# Altium footprint library IQD-Frequency-Products.PCBLIB: 26 footprints (part 2 of 2)
Each footprint in its own frame and in the unit in brackets; x right, y up, seen from the top. Pads: shape width x height; smd on the part's side, far side on the other; paste and mask are expansions set on the pad; w line width, h text height; cw(c..) or ccw(c..) is an arc to the next point about the centre after c.
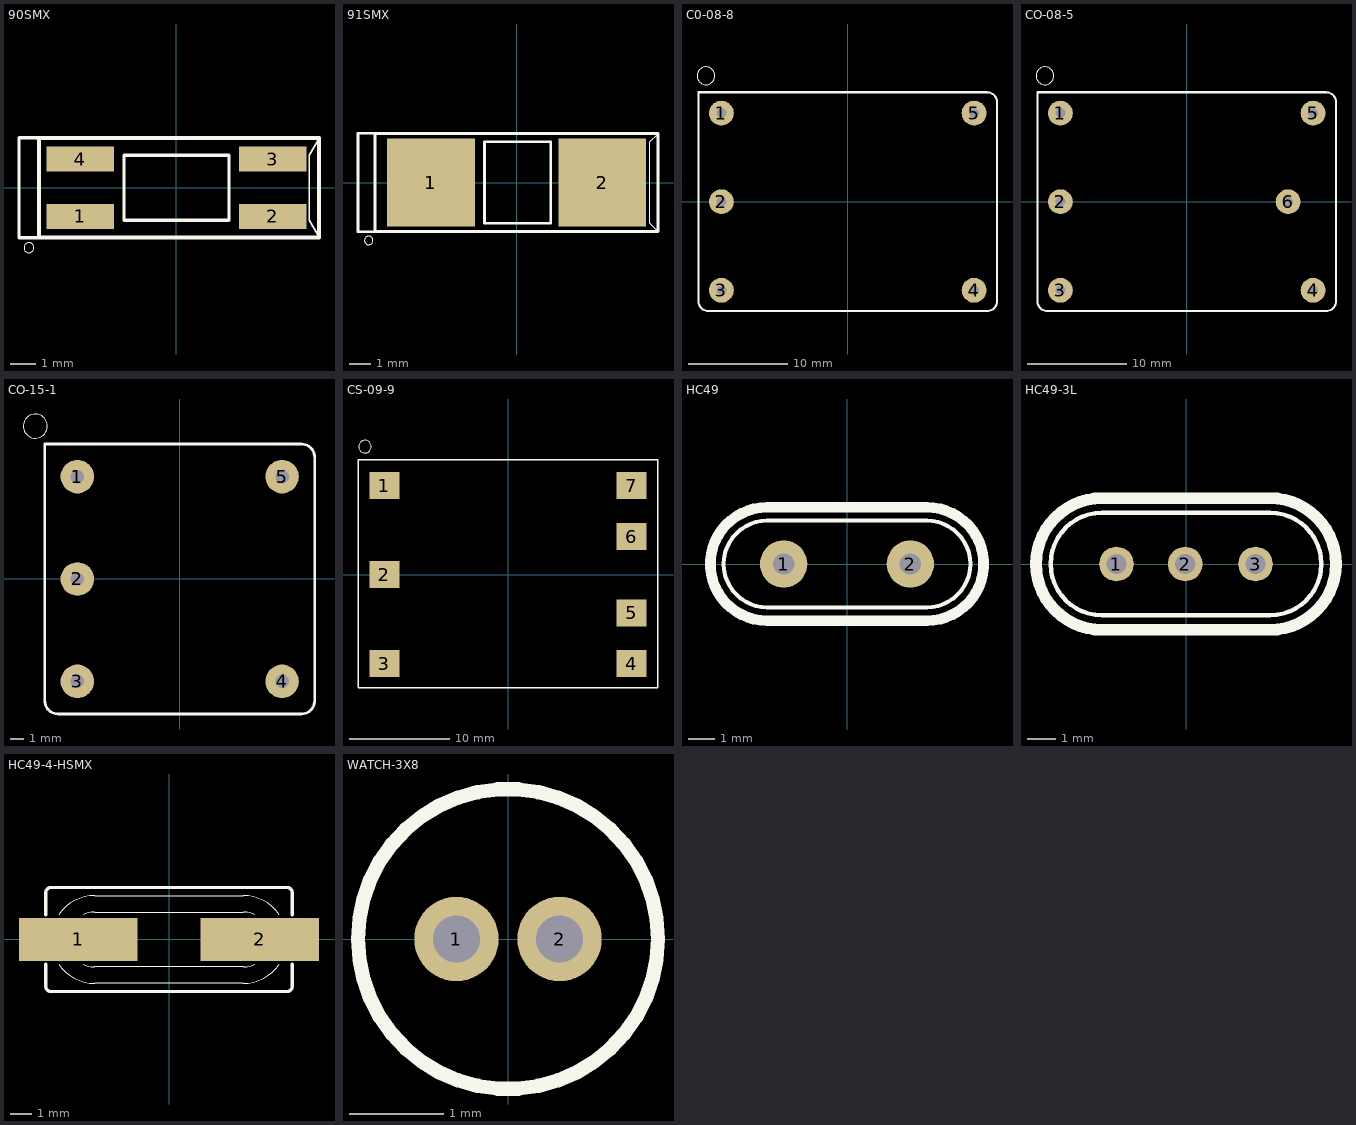
[diagram p1: the footprints below, top view; thin cyan lines are the x and y axes]

## 90SMX [mm]
pads (4):
  rect 2.7x1 smd: 1(-3.85,-1.15) 2(3.85,-1.15) 3(3.85,1.15) 4(-3.85,1.15)
Top Overlay:
  circle w0: c-5.9,-2.4 r0.2
  lines w0.051: 5.704,-1.986 5.323,-1.305 5.323,1.305 5.704,1.986
  lines w0.127: -5.5,-2 -6.3,-2 -6.3,2 -5.5,2 ; -2.1,-1.3 2.1,-1.3 2.1,1.3 -2.1,1.3 -2.1,-1.3
  lines w0.152: 2.413,-1.986 -5.504,-1.986 -5.504,1.986 5.213,1.986 ; 2.423,-1.986 5.704,-1.986 5.704,1.986 5.223,1.986

## 91SMX [mm]
pads (2):
  rect 4.1x4.1 smd: 1(-4,0) 2(4,0)
Top Overlay:
  circle w0: c-6.9,-2.7 r0.2
  lines w0.051: 6.604,-2.286 6.223,-1.905 6.223,1.905 6.604,2.286
  lines w0.127: -6.6,-2.3 -7.4,-2.3 -7.4,2.3 -6.6,2.3 ; -1.5,-1.9 1.6,-1.9 1.6,1.9 -1.5,1.9 -1.5,-1.9
  lines w0.152: 6.213,-2.286 -6.604,-2.286 -6.604,2.286 6.604,2.286 6.604,-2.286 6.223,-2.286

## C0-08-8 [mm]
pads (5):
  round 2.5 hole 1: 1(-12.7,8.9) 2(-12.7,0) 3(-12.7,-8.9) 4(12.7,-8.9) 5(12.7,8.9)
Top Overlay:
  circle w0: c-14.25,12.655 r0.898
  lines w0.203: -15,-10 -15,11 14,11 cw(c14,10) 15,10 15,-10 cw(c14,-10) 14,-11 -14,-11 cw(c-14,-10) -15,-10

## CO-08-5 [mm]
pads (6):
  round 2.5 hole 1: 1(-12.7,8.9) 2(-12.7,0) 3(-12.7,-8.9) 4(12.7,-8.9) 5(12.7,8.9) 6(10.19,0)
Top Overlay:
  circle w0: c-14.25,12.655 r0.898
  lines w0.203: -15,-10 -15,11 14,11 cw(c14,10) 15,10 15,-10 cw(c14,-10) 14,-11 -14,-11 cw(c-14,-10) -15,-10

## CO-15-1 [mm]
pads (5):
  round 2.5 hole 1: 1(-7.62,7.62) 2(-7.62,0) 3(-7.62,-7.62) 4(7.62,-7.62) 5(7.62,7.62)
Top Overlay:
  circle w0: c-10.75,11.385 r0.898
  lines w0.203: -10.05,-9.05 -10.05,10.05 9.05,10.05 cw(c9.05,9.05) 10.05,9.05 10.05,-9.05 cw(c9.05,-9.05) 9.05,-10.05 -9.05,-10.05 cw(c-9.05,-9.05) -10.05,-9.05

## CS-09-9 [mm]
pads (7):
  rect 3x2.7 smd: 1(-12.35,8.9) 2(-12.35,0) 3(-12.35,-8.9) 4(12.35,-8.9) 5(12.35,-3.81) 6(12.35,3.81) 7(12.35,8.9)
Top Overlay:
  circle w0: c-14.305,12.81 r0.635
  lines w0.127: -15,-11.3 15,-11.3 15,11.5 -15,11.5 -15,-11.3

## HC49 [mil]
pads (2):
  round 70.87 hole 32: 1(-95,0) 2(95,0)
Top Overlay:
  lines w6: -120,-65 120,-65 ccw(c120,0) 120,65 -120,65 ccw(c-120,0) -120,-65
  lines w16: -120,-85 120,-85 ccw(c120,0) 120,85 -120,85 ccw(c-120,0) -120,-85
Via Holes:
  rectangle: -175,-100 175,100
  rectangle: -200,-75 -175,75
  rectangle: -225,-50 -200,50
  rectangle: 175,-75 200,75
  rectangle: 200,-50 225,50

## HC49-3L [mil]
pads (3):
  round 47.24 hole 27.56: 1(-95,0) 2(-1.06,0) 3(95,0)
Top Overlay:
  lines w6: -115,-70 115,-70 ccw(c115,0) 115,70 -115,70 ccw(c-115,0) -115,-70
  lines w16: -115,-90 115,-90 ccw(c115,0) 115,90 -115,90 ccw(c-115,0) -115,-90

## HC49-4-HSMX [mm]
pads (2):
  rect 5.5x2 smd: 1(-4.2,0) 2(4.2,0)
Top Overlay:
  lines w0.051: -5.109,-1.143 ccw(c-3.429,0) -3.429,-2.032 3.429,-2.032 ccw(c3.429,0) 5.109,-1.143 ; -5.109,1.143 cw(c-3.429,0) -3.429,2.032 3.429,2.032 cw(c3.429,0) 5.109,1.143 ; -3.983,-1.143 ccw(c-3.429,0) -3.429,-1.27 3.429,-1.27 ccw(c3.429,0) 3.983,-1.143 ; -3.983,1.143 cw(c-3.429,0) -3.429,1.27 3.429,1.27 cw(c3.429,0) 3.983,1.143
  lines w0.152: -5.715,-1.143 -5.715,-2.159 ccw(c-5.461,-2.159) -5.461,-2.413 5.461,-2.413 ccw(c5.461,-2.159) 5.715,-2.159 5.715,-1.143 ; -5.715,1.143 -5.715,2.159 cw(c-5.461,2.159) -5.461,2.413 5.461,2.413 cw(c5.461,2.159) 5.715,2.159 5.715,1.143
Via Holes:
  rectangle: -6.604,-2.54 6.604,2.794

## WATCH-3X8 [mm]
pads (2):
  round 0.9 hole 0.5: 1(-0.55,0) 2(0.55,0)
Top Overlay:
  circle w0.152: c0,0 r1.6